# EAGLE library part SPC570-S-64-ETQFP (library comma.ai)
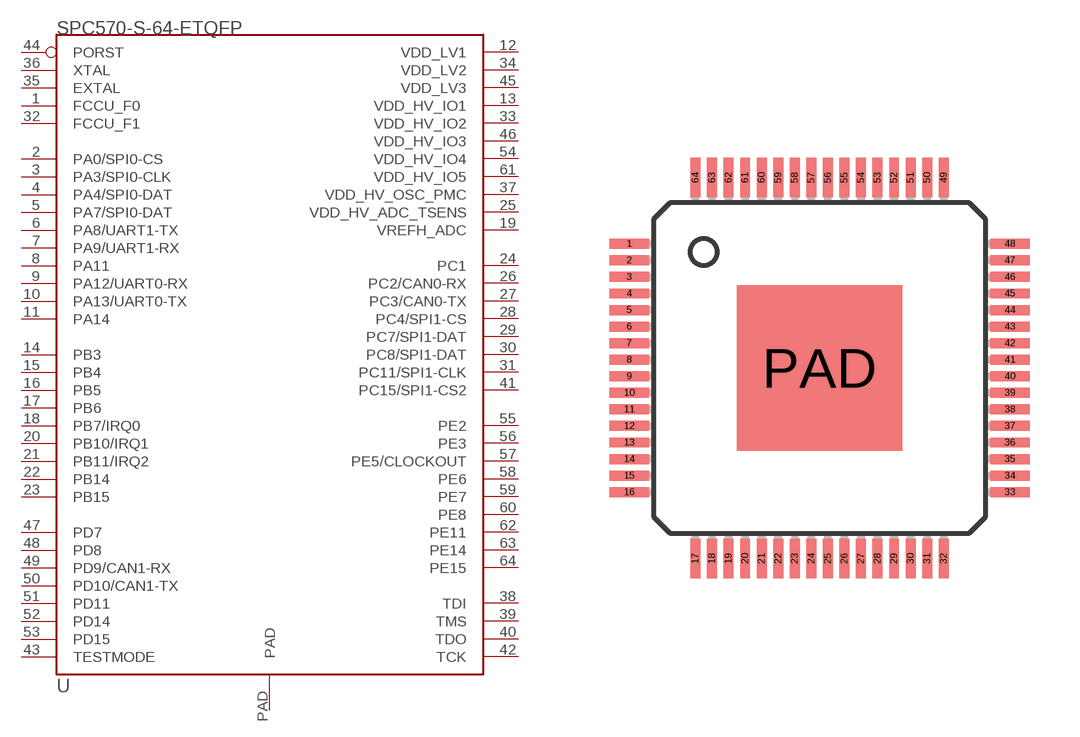
[diagram p14: symbol with the pads of ETQFP64; footprint ETQFP64]

Designator prefix -

## SPC570-S-64-ETQFP  [ETQFP64]
1  FCCU_F0
2  PA0/SPI0-CS
3  PA3/SPI0-CLK
4  PA4/SPI0-DAT
5  PA7/SPI0-DAT
6  PA8/UART1-TX
7  PA9/UART1-RX
8  PA11
9  PA12/UART0-RX
10  PA13/UART0-TX
11  PA14
12  VDD_LV1
13  VDD_HV_IO1  sup
14  PB3
15  PB4
16  PB5
17  PB6
18  PB7/IRQ0
19  VREFH_ADC
20  PB10/IRQ1
21  PB11/IRQ2
22  PB14
23  PB15
24  PC1
25  VDD_HV_ADC_TSENS  sup
26  PC2/CAN0-RX
27  PC3/CAN0-TX
28  PC4/SPI1-CS
29  PC7/SPI1-DAT
30  PC8/SPI1-DAT
31  PC11/SPI1-CLK
32  FCCU_F1  in
33  VDD_HV_IO2  sup
34  VDD_LV2  sup
35  EXTAL
36  XTAL
37  VDD_HV_OSC_PMC  sup
38  TDI
39  TMS
40  TDO
41  PC15/SPI1-CS2
42  TCK
43  TESTMODE
44  PORST
45  VDD_LV3  sup
46  VDD_HV_IO3  sup
47  PD7
48  PD8
49  PD9/CAN1-RX
50  PD10/CAN1-TX
51  PD11
52  PD14
53  PD15
54  VDD_HV_IO4  sup
55  PE2
56  PE3
57  PE5/CLOCKOUT
58  PE6
59  PE7
60  PE8
61  VDD_HV_IO5
62  PE11  out
63  PE14  in
64  PE15  sup
PAD  PAD  sup

## Footprint ETQFP64 (pad centres in mm)
Based on STM PCB landpattern recomendation
smd 1.2 x 0.3: 1 -5.75,3.75; 2 -5.75,3.25; 3 -5.75,2.75; 4 -5.75,2.25; 5 -5.75,1.75; 6 -5.75,1.25; 7 -5.75,0.75; 8 -5.75,0.25; 9 -5.75,-0.25; 10 -5.75,-0.75; 11 -5.75,-1.25; 12 -5.75,-1.75; 13 -5.75,-2.25; 14 -5.75,-2.75; 15 -5.75,-3.25; 16 -5.75,-3.75; 33 5.75,-3.75; 34 5.75,-3.25; 35 5.75,-2.75; 36 5.75,-2.25; 37 5.75,-1.75; 38 5.75,-1.25; 39 5.75,-0.75; 40 5.75,-0.25; 41 5.75,0.25; 42 5.75,0.75; 43 5.75,1.25; 44 5.75,1.75; 45 5.75,2.25; 46 5.75,2.75; 47 5.75,3.25; 48 5.75,3.75
smd 0.3 x 1.2: 17 -3.75,-5.75; 18 -3.25,-5.75; 19 -2.75,-5.75; 20 -2.25,-5.75; 21 -1.75,-5.75; 22 -1.25,-5.75; 23 -0.75,-5.75; 24 -0.25,-5.75; 25 0.25,-5.75; 26 0.75,-5.75; 27 1.25,-5.75; 28 1.75,-5.75; 29 2.25,-5.75; 30 2.75,-5.75; 31 3.25,-5.75; 32 3.75,-5.75; 49 3.75,5.75; 50 3.25,5.75; 51 2.75,5.75; 52 2.25,5.75; 53 1.75,5.75; 54 1.25,5.75; 55 0.75,5.75; 56 0.25,5.75; 57 -0.25,5.75; 58 -0.75,5.75; 59 -1.25,5.75; 60 -1.75,5.75; 61 -2.25,5.75; 62 -2.75,5.75; 63 -3.25,5.75; 64 -3.75,5.75
smd 5 x 5: PAD 0,0